# Altium footprint library RESADV508-1670X520.PcbLib: 1 footprints
Each footprint in its own frame and in the unit in brackets; x right, y up, seen from the top. Pads: shape width x height; smd on the part's side, far side on the other; paste and mask are expansions set on the pad; w line width, h text height; cw(c..) or ccw(c..) is an arc to the next point about the centre after c.
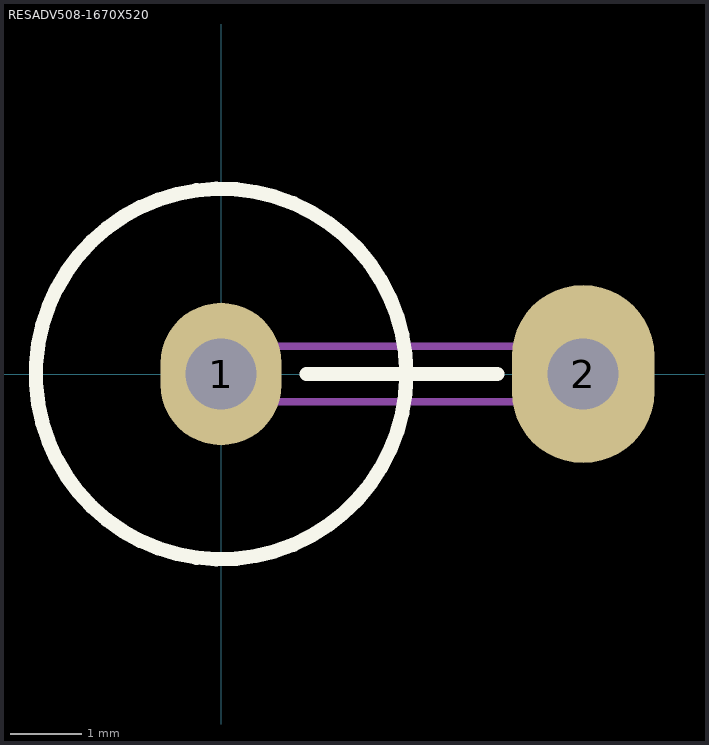
[diagram p0: the footprint, top view; thin cyan lines are the x and y axes]

## RESADV508-1670X520 [mm] "Resistor, Axial, Vertical Mount, Lead spacing 5.08 mm - Body Lengh 16.7mm X Body Diameter 5.2mm"
height 23.6
pads (2):
  oval 1.7x2 hole 1: 1(0,0)
  oval 2x2.5 hole 1: 2(5.08,0)
Top Overlay:
  circle w0.2: c0,0 r2.6
  lines w0.2: 1.2,0 3.875,0
Mechanical 8:
  lines w0.1: -0.5,0 0,0 ; 0,-0.5 0,0 ; 0,0.5 0,0 ; 0.5,0 0,0 ; 4.58,0 5.08,0 ; 5.08,-0.5 5.08,0 ; 5.08,0.5 5.08,0 ; 5.58,0 5.08,0
Mechanical 14:
  lines w0.1: 2.571,-0.39 cw(c0,0) 2.571,0.39 ; 0,-0.39 cw(c0,0) 0,0.39 5.08,0.39 cw(c5.08,0) 5.08,-0.39 0,-0.39
3D body "RESADV508-1670X520.stp": height 23.6, standoff -3.7, extent -2.6,-2.6 5.47,2.6